# Altium footprint library 5530843-6.PcbLib: 1 footprints
Each footprint in its own frame and in the unit in brackets; x right, y up, seen from the top. Pads: shape width x height; smd on the part's side, far side on the other; paste and mask are expansions set on the pad; w line width, h text height; cw(c..) or ccw(c..) is an arc to the next point about the centre after c.
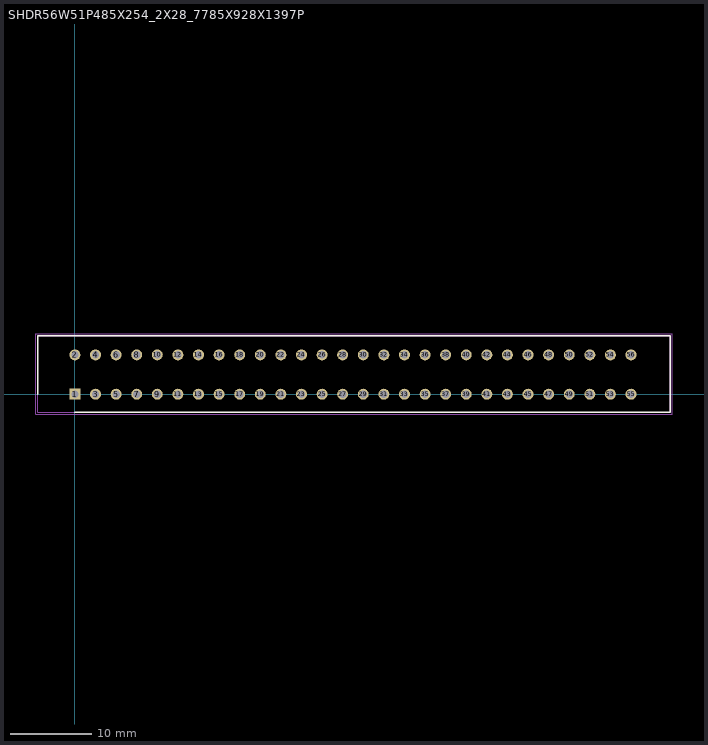
[diagram p0: the footprint, top view; thin cyan lines are the x and y axes]

## SHDR56W51P485X254_2X28_7785X928X1397P [mm]
pads (56):
  rect 1.35x1.35 hole 0.9: 1(0,0)
  round 1.35 hole 0.9: 2(0,4.851) 3(2.54,0) 4(2.54,4.851) 5(5.08,0) 6(5.08,4.851) 7(7.62,0) 8(7.62,4.851) 9(10.16,0) 10(10.16,4.851) 11(12.7,0) 12(12.7,4.851) 13(15.24,0) 14(15.24,4.851) 15(17.78,0) 16(17.78,4.851) 17(20.32,0) 18(20.32,4.851) 19(22.86,0) 20(22.86,4.851) 21(25.4,0) 22(25.4,4.851) 23(27.94,0) 24(27.94,4.851) 25(30.48,0) 26(30.48,4.851) 27(33.02,0) 28(33.02,4.851) 29(35.56,0) 30(35.56,4.851) 31(38.1,0) 32(38.1,4.851) 33(40.64,0) 34(40.64,4.851) 35(43.18,0) 36(43.18,4.851) 37(45.72,0) 38(45.72,4.851) 39(48.26,0) 40(48.26,4.851) 41(50.8,0) 42(50.8,4.851) 43(53.34,0) 44(53.34,4.851) 45(55.88,0) 46(55.88,4.851) 47(58.42,0) 48(58.42,4.851) 49(60.96,0) 50(60.96,4.851) 51(63.5,0) 52(63.5,4.851) 53(66.04,0) 54(66.04,4.851) 55(68.58,0) 56(68.58,4.851)
Top Overlay:
  lines w0.2: -4.572,0 -4.572,7.226 73.406,7.226 73.406,-2.248 0,-2.248
Mechanical 13:
  lines w0.1: -4.572,-2.248 73.406,-2.248 73.406,7.226 -4.572,7.226 -4.572,-2.248
Mechanical 15:
  lines w0.05: -4.822,-2.498 73.656,-2.498 73.656,7.476 -4.822,7.476 -4.822,-2.498
3D body "5530843-6.stp": height 0, standoff -18.67, extent -4.445,-2.134 73.279,7.214